# EAGLE library part 503182-1853 (library 503182-1853)
Conn Micro SD Card SKT 8 POS 1.09mm Solder RA SMD Embossed T/R 0.5A/Contact
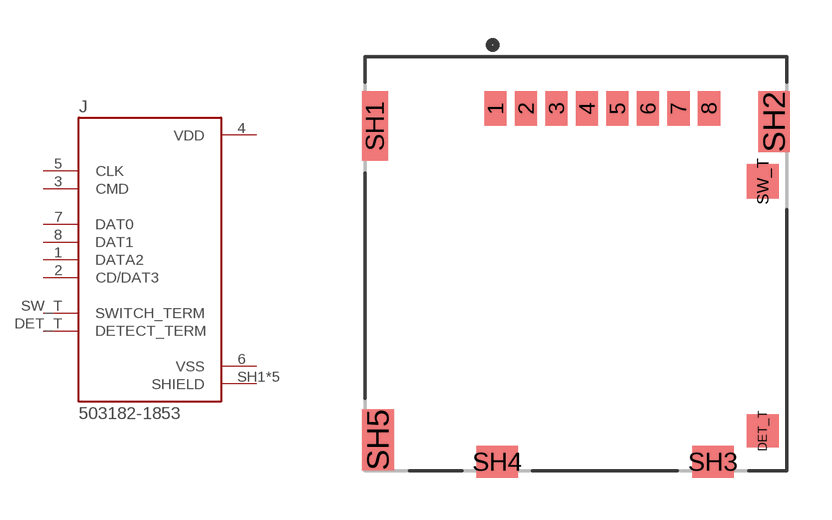
[diagram p0: symbol with the pads of MOLEX_503182-1853; footprint MOLEX_503182-1853]

Designator prefix J

## 503182-1853 (Description: Conn Micro SD Card SKT 8 POS 1.09mm Solder RA SMD Embossed T/R 0.5A/Contact; Digi-Key_Part_Number: WM9750CT-ND; Digi-Key_Purchase_URL: https://www.digikey.com/product-detail/en/molex/5031821853/WM9750CT-ND/4092575?utm_source=snapeda&utm_medium=aggregator&utm_campaign=symbol; MF: Molex; MP: 5031821853; Package: None)  [MOLEX_503182-1853]
1  DATA2  pas
2  CD/DAT3  pas
3  CMD  pas
4  VDD  pas
5  CLK  pas
6  VSS  pas
7  DAT0  pas
8  DAT1  pas
DET_T  DETECT_TERM  pas
SH1  SHIELD  pas
SH2  SHIELD  pas
SH3  SHIELD  pas
SH4  SHIELD  pas
SH5  SHIELD  pas
SW_T  SWITCH_TERM  pas

## Footprint MOLEX_503182-1853 (pad centres in mm)
smd 0.8 x 1.24: 1 -2.9,5.605; 2 -1.8,5.605; 3 -0.7,5.605; 4 0.4,5.605; 5 1.5,5.605; 6 2.6,5.605; 7 3.7,5.605; 8 4.8,5.605
smd 1.16 x 1.2: DET_T 6.74,-6.025
smd 0.95 x 2.5: SH1 -7.245,4.975
smd 1.15 x 2.2: SH2 7.145,5.125; SH5 -7.145,-6.355
smd 1.5 x 1.15: SH3 4.94,-7.15; SH4 -2.84,-7.15
smd 1.16 x 1.25: SW_T 6.74,2.975